# EAGLE library part WE-DS_210611023 (library Wurth_Elektronik_EMC_COMPONENTS_rev16c)
WE-DS D-SUB-Filter, Solder Pin Straight Characteristics Standard type filtered with 1000 pF High attenuation: max. ≥ 40 dB @ 180 MHz Choice of UNC 4/40 or through hole Rated voltage: 100 VDC Rated current @ 20 ºC: 5 A Withstand voltage: 250 VRMS Insulation resistance: min. 1000 MΩ Operating temperature: –55 ºC to +125 ºC Applications Filtering of interfaces External connection to -printer -sensor -display <http://katalog.we-online.de/media/images/v2/Family_D-SUB-Filter_mit_geradem_Ltstift.jpg> Details see: http://katalog.we-online.de/en/pbs/D-SUB-FILTER-STRAIGHT/210111023 2016 (C) Wurth Elektronik
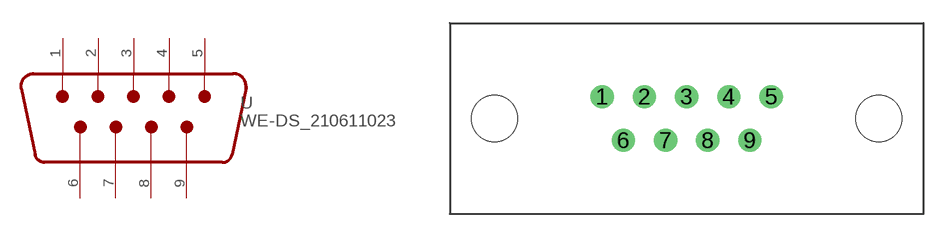
[diagram p235: symbol with the pads of WE-DS_2106110X3; footprint WE-DS_2106110X3]

Designator prefix -

## WE-DS_210611023  [WE-DS_2106110X3]
1  1
2  2
3  3
4  4
5  5
6  6
7  7
8  8
9  9

## Footprint WE-DS_2106110X3 (pad centres in mm)
drill 1: 1 -5.49,1.42; 2 -2.74,1.42; 3 0,1.42; 4 2.74,1.42; 5 5.49,1.42; 6 -4.11,-1.42; 7 -1.37,-1.42; 8 1.37,-1.42; 9 4.11,-1.42
hole 3 at -12.5,0
hole 3 at 12.5,0